# Altium footprint library PcbLib6.PcbLib: 1 footprints
Each footprint in its own frame and in the unit in brackets; x right, y up, seen from the top. Pads: shape width x height; smd on the part's side, far side on the other; paste and mask are expansions set on the pad; w line width, h text height; cw(c..) or ccw(c..) is an arc to the next point about the centre after c.
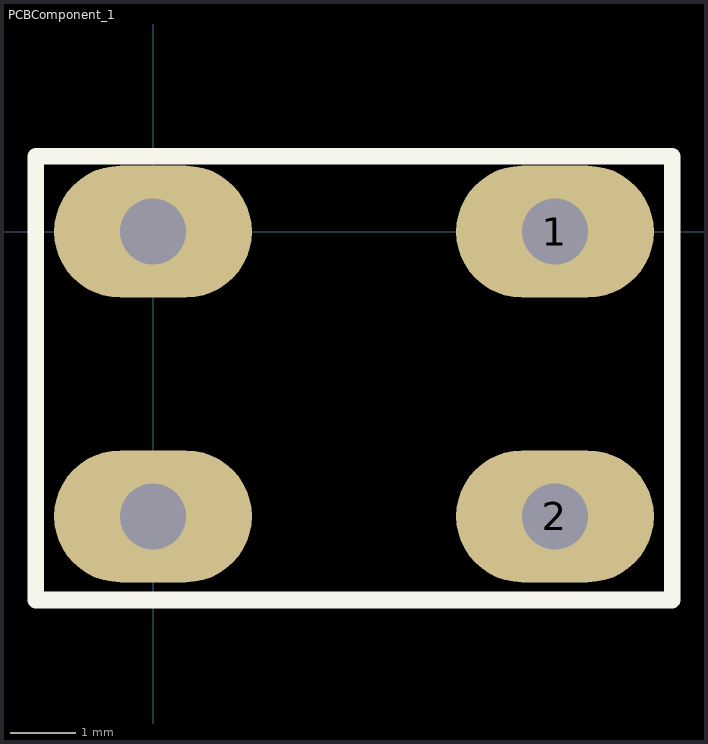
[diagram p0: the footprint, top view; thin cyan lines are the x and y axes]

## PCBComponent_1 [mm]
pads (4):
  oval 3x2 hole 1: 1(6.096,0) 2(6.096,-4.318) ""(0,-4.318) ""(0,0)
Top Overlay:
  lines w0.254: -1.778,-5.588 -1.778,1.143 7.874,1.143 7.874,-5.588 -1.778,-5.588